# Altium footprint library WS2812B_NEW_FOOTPRINT.PcbLib: 1 footprints
Each footprint in its own frame and in the unit in brackets; x right, y up, seen from the top. Pads: shape width x height; smd on the part's side, far side on the other; paste and mask are expansions set on the pad; w line width, h text height; cw(c..) or ccw(c..) is an arc to the next point about the centre after c.
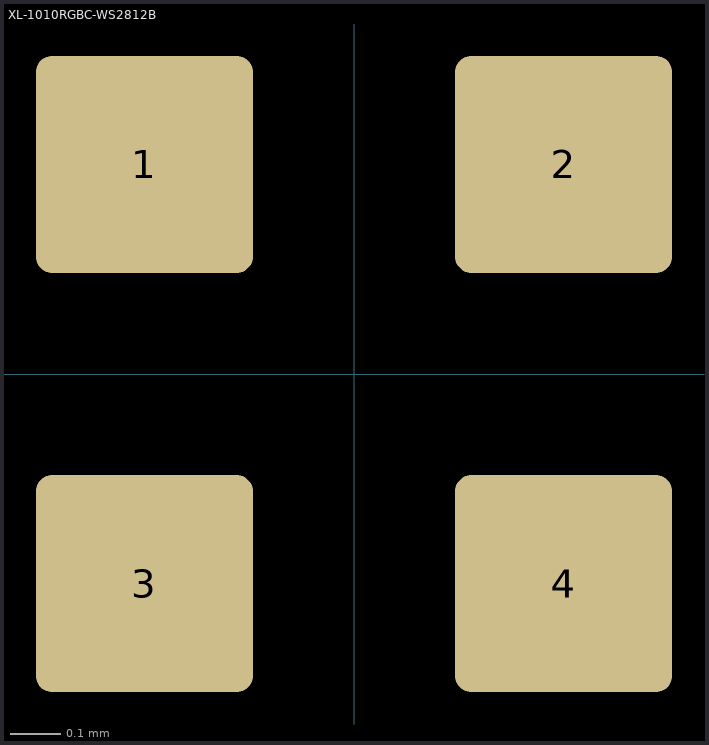
[diagram p0: the footprint, top view; thin cyan lines are the x and y axes]

## XL-1010RGBC-WS2812B [mm]
pads (4):
  rrect15% 0.43x0.43 smd: 1(-0.415,0.415) 2(0.415,0.415) 3(-0.415,-0.415) 4(0.415,-0.415)
3D body "LED-SMD_4P-L1.0-W1.0-TL_XL-1010RGBC-WS2812B.step": height 0.8, standoff -0.01, extent -0.515,-0.494 0.486,0.506